# Altium integrated library PZ-SIM800C GSM-GPRS模块.IntLib: 24 symbols
Pins are listed as number, name and electrical type; pins without a type are passive.

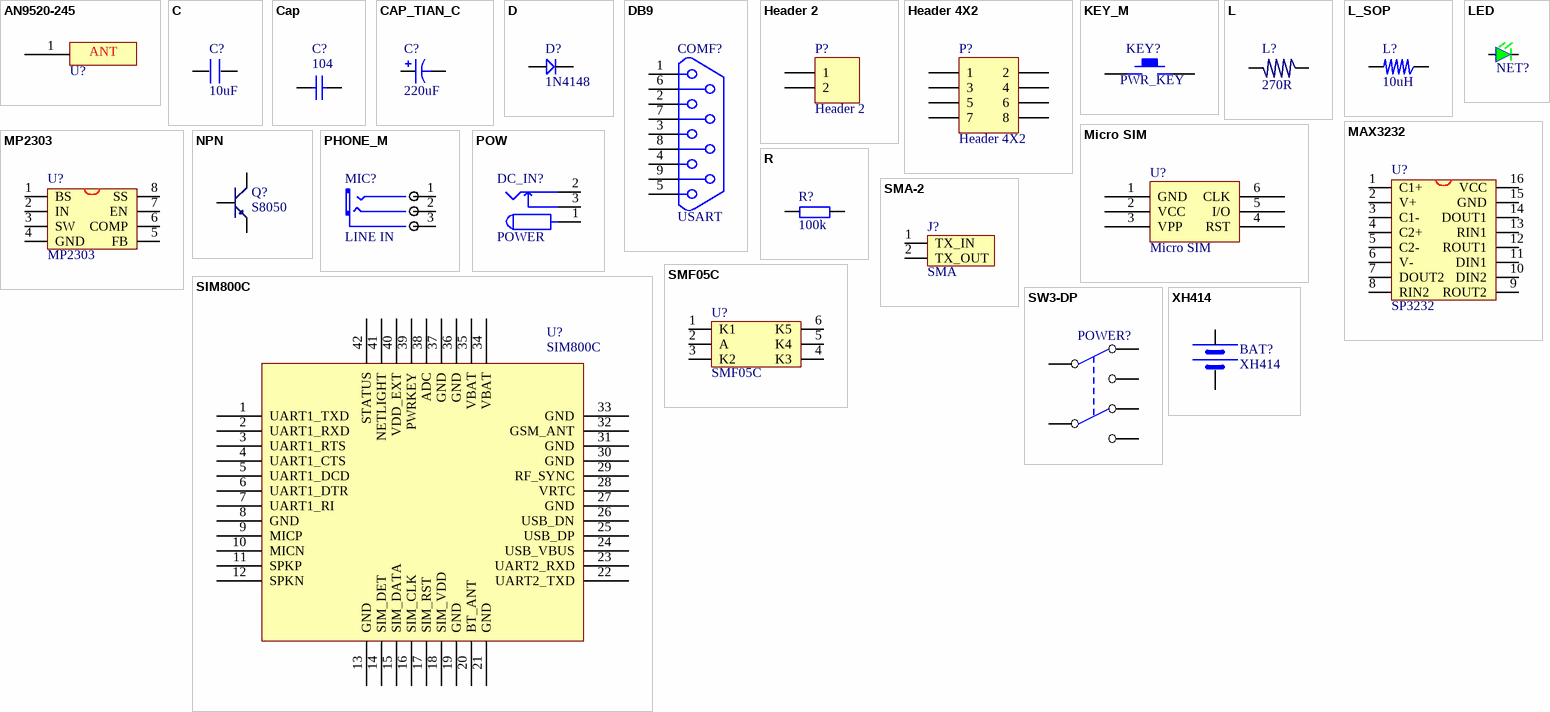
[diagram p0: symbols AN9520-245 to XH414]

## AN9520-245
designator U?, comment ANT  (value not drawn)
陶瓷天线
footprint JOHANSON (陶瓷天线 3.2mm *1.6m)
pins: 1 ANT

## C
designator C?, comment 10uF
footprint 0603P
footprint 0805
footprint CC5.08 (CAP0.1)
footprint CC4.572 (222/332)
footprint 1206
footprint 1210
footprint CC6.096
footprint CC7.62
footprint 0603
footprint 0603
footprint 0805
pins: 1, 2

## Cap
designator C?, comment value 104  (hidden comment: Cap104)
Capacitor; Published: 8-Jun-2000; LatestRevisionDate: 17-Jul-2002; LatestRevisionNote: Re-released for DXP Platform.; PackageReference: RAD-0.3; Publisher: Altium Limited
simulation model CAP (Capacitor)
signal-integrity model Cap
footprint 0603
pins: 1, 2

## CAP_TIAN_C
designator C?, comment 220uF
footprint CC6 (铝制电容贴片)
pins: 1, 2

## D
designator D?, comment 1N4148
footprint SOD-123
footprint DIODE_SOP
footprint DIODE-L (6A10)
footprint DIODE-M (1N5822)
footprint DIODE_S (1N4007)
footprint DIODE_3*5.3 (ME:SS14/SS24;L:5.3mm;W:3mm;)
footprint DIODE_4*5.6 (ME:RS2J.L:5.6mm;W:4mm)
footprint DIODE_6.2*8.13 (ME:RS2J.L:8.13mm;W:6.2mm)
pins: 1, 2

## DB9
designator COMF?, comment USART
footprint DB9
footprint DB9 (DB9母针)
pins: 1, 2, 3, 4, 5, 6, 7, 8, 9
2 alternate drawings of the same symbol

## Header 2
designator P?
Header, 2-Pin; LatestRevisionDate: 17-Jul-2002; LatestRevisionNote: Re-released for DXP Platform.; Publisher: Altium Limited
footprint HDR1X2 (Connector; Header; 2 Position)
signal-integrity model Connector
pins: 1, 2

## Header 4X2
designator P?
Header, 4-Pin, Dual row; LatestRevisionDate: 17-Jul-2002; LatestRevisionNote: Re-released for DXP Platform.; Publisher: Altium Limited
footprint HDR2X4 (Connector; Header; 4x2 Position)
signal-integrity model Connector
pins: 1, 2, 3, 4, 5, 6, 7, 8

## KEY_M
designator KEY?, comment PWR_KEY
footprint KEY_M (KEY_MID)
footprint KEY_2 (KEY?)
footprint KEY_SOP_BG (KEY?)
pins: 1, 2

## L
designator L?, comment 270R
footprint L3A (L)
footprint L4.7
footprint L_USER (SELF_DEF)
footprint L10 (10mH)
footprint SMD7850
footprint 0805
footprint 1206
footprint L_SOPL (L_LARGE)
footprint L_CD43 (4mm*4mm)
footprint 0603P
pins: 1, 2

## L_SOP
designator L?, comment 10uH
footprint L_SOPL (L_LARGE)
footprint L_SOPS (L_4*4)
footprint L10 (10mH)
footprint L_SOP74 (7.4*7.4)
footprint L_CD43 (4mm*4mm)
pins: 1, 2

## LED
designator NET?, comment LED绿  (value not drawn)
footprint LED0603
pins: A a, K k

## MAX3232
designator U?, comment SP3232
footprint SOP16M (Small Outline; 16 Leads; Body Width 3.9 mm; Pitch 1.27 mm)
footprint SOP16M
pins: 1 C1+, 2 V+, 3 C1-, 4 C2+, 5 C2-, 6 V-, 7 DOUT2, 8 RIN2, 9 ROUT2, 10 DIN2, 11 DIN1, 12 ROUT1, 13 RIN1, 14 DOUT1, 15 GND, 16 VCC

## Micro SIM
designator U?
footprint Micro SIM (6P 自弹式)
pins: 1 GND, 2 VCC, 3 VPP, 4 RST, 5 I/O, 6 CLK

## MP2303
designator U?
DC DC Step Down IC
footprint MP2303
pins: 1 BS, 2 IN, 3 SW, 4 GND, 5 FB, 6 COMP, 7 EN, 8 SS

## NPN
designator Q?, comment S8050
8050/BCW846/BCW847
footprint SOT-23R (SOT-23; 3 Leads; Body 3.0 x 2.5 mm, inc. leads (LxW max))
footprint NPN
pins: 1 E, 2 B, 3 C

## PHONE_M
designator MIC?, comment LINE IN
footprint PHONE_ST
pins: 1 CHL, 2 CHR, 3 COM

## POW
designator DC_IN?, comment POWER
footprint POWER (DC_IN)
footprint DC10B
pins: 1, 2, 3

## R
designator R?, comment 100k
footprint 0805
footprint 0603P
footprint 0603
pins: 1, 2

## SIM800C
designator U?
GSM
footprint SIM800C
footprint SIM800C
footprint SIM800C
pins: 1 UART1_TXD, 2 UART1_RXD, 3 UART1_RTS, 4 UART1_CTS, 5 UART1_DCD, 6 UART1_DTR, 7 UART1_RI, 8 GND, 9 MICP, 10 MICN, 11 SPKP, 12 SPKN, 13 GND, 14 SIM_DET, 15 SIM_DATA, 16 SIM_CLK, 17 SIM_RST, 18 SIM_VDD, 19 GND, 20 BT_ANT, 21 GND, 22 UART2_TXD, 23 UART2_RXD, 24 USB_VBUS, 25 USB_DP, 26 USB_DN, 27 GND, 28 VRTC, 29 RF_SYNC, 30 GND, 31 GND, 32 GSM_ANT, 33 GND, 34 VBAT, 35 VBAT, 36 GND, 37 GND, 38 ADC, 39 PWRKEY, 40 VDD_EXT, 41 NETLIGHT, 42 STATUS

## SMA-2
designator J?, comment SMA
SMA-2
footprint SMA-2
pins: 1 TX_IN, 2 TX_OUT

## SMF05C
designator U?
TVS
footprint SMF05C (SOT-363)
pins: 1 K1, 2 A, 3 K2, 4 K3, 5 K4, 6 K5

## SW3-DP
designator POWER?  (value not drawn)
footprint SW6
pins: 1 NC1, 2 COMMON1, 3 NO1, 4 NO2, 5 COMMON2, 6 NC2

## XH414
designator BAT?
XH414 IV01E
footprint XH414
footprint BAT (BATTERY)
footprint XH414
footprint XH414
footprint XH414
pins: 1 VCC, 2 GND